# Altium schematic symbol library SCH - MCU - ATMEGA - MICROCHIP ATMEGA1280-16AU TQFP100.SchLib: 1 symbol
Pins are listed as number, name and electrical type; pins without a type are passive.

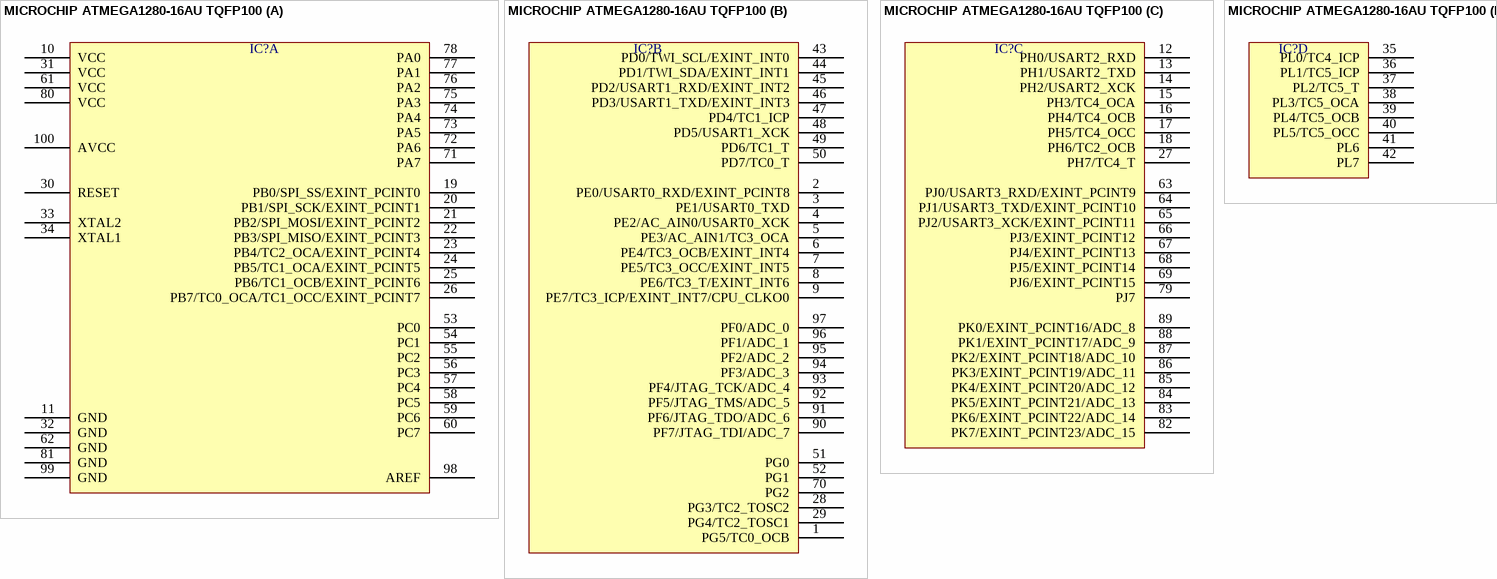
[diagram p0: symbol MICROCHIP ATMEGA1280-16AU TQFP100]

## MICROCHIP ATMEGA1280-16AU TQFP100
designator IC?  (value not drawn)
part A pins: 10 VCC, 11 GND, 19 PB0/SPI_SS/EXINT_PCINT0, 20 PB1/SPI_SCK/EXINT_PCINT1, 21 PB2/SPI_MOSI/EXINT_PCINT2, 22 PB3/SPI_MISO/EXINT_PCINT3, 23 PB4/TC2_OCA/EXINT_PCINT4, 24 PB5/TC1_OCA/EXINT_PCINT5, 25 PB6/TC1_OCB/EXINT_PCINT6, 26 PB7/TC0_OCA/TC1_OCC/EXINT_PCINT7, 30 RESET, 31 VCC, 32 GND, 33 XTAL2, 34 XTAL1, 53 PC0, 54 PC1, 55 PC2, 56 PC3, 57 PC4, 58 PC5, 59 PC6, 60 PC7, 61 VCC, 62 GND, 71 PA7, 72 PA6, 73 PA5, 74 PA4, 75 PA3, 76 PA2, 77 PA1, 78 PA0, 80 VCC, 81 GND, 98 AREF, 99 GND, 100 AVCC
part B pins: 1 PG5/TC0_OCB, 2 PE0/USART0_RXD/EXINT_PCINT8, 3 PE1/USART0_TXD, 4 PE2/AC_AIN0/USART0_XCK, 5 PE3/AC_AIN1/TC3_OCA, 6 PE4/TC3_OCB/EXINT_INT4, 7 PE5/TC3_OCC/EXINT_INT5, 8 PE6/TC3_T/EXINT_INT6, 9 PE7/TC3_ICP/EXINT_INT7/CPU_CLKO0, 28 PG3/TC2_TOSC2, 29 PG4/TC2_TOSC1, 43 PD0/TWI_SCL/EXINT_INT0, 44 PD1/TWI_SDA/EXINT_INT1, 45 PD2/USART1_RXD/EXINT_INT2, 46 PD3/USART1_TXD/EXINT_INT3, 47 PD4/TC1_ICP, 48 PD5/USART1_XCK, 49 PD6/TC1_T, 50 PD7/TC0_T, 51 PG0, 52 PG1, 70 PG2, 90 PF7/JTAG_TDI/ADC_7, 91 PF6/JTAG_TDO/ADC_6, 92 PF5/JTAG_TMS/ADC_5, 93 PF4/JTAG_TCK/ADC_4, 94 PF3/ADC_3, 95 PF2/ADC_2, 96 PF1/ADC_1, 97 PF0/ADC_0
part C pins: 12 PH0/USART2_RXD, 13 PH1/USART2_TXD, 14 PH2/USART2_XCK, 15 PH3/TC4_OCA, 16 PH4/TC4_OCB, 17 PH5/TC4_OCC, 18 PH6/TC2_OCB, 27 PH7/TC4_T, 63 PJ0/USART3_RXD/EXINT_PCINT9, 64 PJ1/USART3_TXD/EXINT_PCINT10, 65 PJ2/USART3_XCK/EXINT_PCINT11, 66 PJ3/EXINT_PCINT12, 67 PJ4/EXINT_PCINT13, 68 PJ5/EXINT_PCINT14, 69 PJ6/EXINT_PCINT15, 79 PJ7, 82 PK7/EXINT_PCINT23/ADC_15, 83 PK6/EXINT_PCINT22/ADC_14, 84 PK5/EXINT_PCINT21/ADC_13, 85 PK4/EXINT_PCINT20/ADC_12, 86 PK3/EXINT_PCINT19/ADC_11, 87 PK2/EXINT_PCINT18/ADC_10, 88 PK1/EXINT_PCINT17/ADC_9, 89 PK0/EXINT_PCINT16/ADC_8
part D pins: 35 PL0/TC4_ICP, 36 PL1/TC5_ICP, 37 PL2/TC5_T, 38 PL3/TC5_OCA, 39 PL4/TC5_OCB, 40 PL5/TC5_OCC, 41 PL6, 42 PL7